# Altium schematic symbol library RECOM RO Series 1W DCDC.SchLib: 1 symbol
Pins are listed as number, name and electrical type; pins without a type are passive.

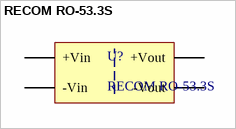
[diagram p0: symbol RECOM RO-53.3S]

## RECOM RO-53.3S
designator U?
DC/DC 1W 5VIN 3.3VOUT ISO; Supplier 1: Digi-Key; Supplier Part Number 1: 945-1524-5-ND
footprint RECOM RO Series 1W DCDC (RO-053.3S)
pins: 1 -Vin, 2 +Vin, 3 -Vout, 4 +Vout